# EAGLE library part AWHW14 (library J-IDC2.54mm)
14POS 2.52MM pitch Boxheader for IDC socktest http://assmann.us/
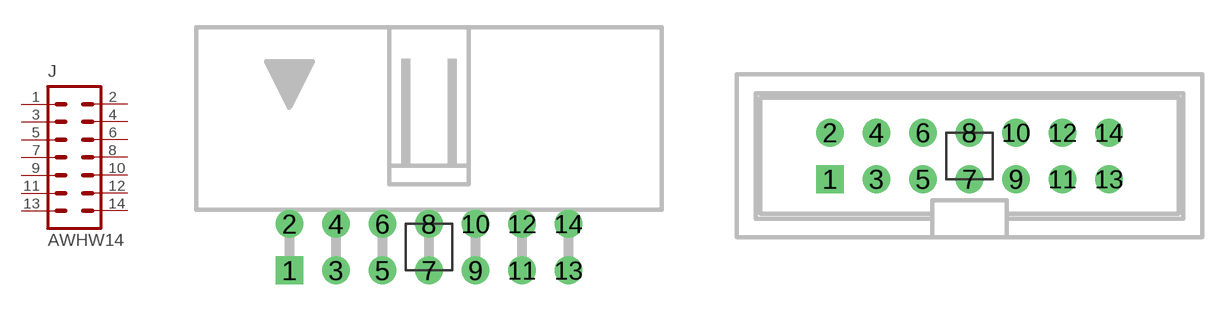
[diagram p2: symbol with the pads of 14A-0202-T-R; footprints 14A-0202-T-R, 14G-0202-T-R]

Designator prefix J

## AWHW14A-0202-T-R  [14A-0202-T-R]
1  1  pas
2  2  pas
3  3  pas
4  4  pas
5  5  pas
6  6  pas
7  7  pas
8  8  pas
9  9  pas
10  10  pas
11  11  pas
12  12  pas
13  13  pas
14  14  pas

## AWHW14G-0202-T-R  [14G-0202-T-R]
Pads as for 14A-0202-T-R

## AWHW14-G-SMD-R  [14-G-SMD-R]
Pads as for 14A-0202-T-R

## Footprint 14A-0202-T-R (pad centres in mm)
2.54MM Pitch, 1.016MM drill, diameter is auto (uses DRC restring) AWHW14A-0202-T-R
drill 1.016 square: 1 -7.62,-1.27
drill 1.016: 2 -7.62,1.27; 3 -5.08,-1.27; 4 -5.08,1.27; 5 -2.54,-1.27; 6 -2.54,1.27; 7 0,-1.27; 8 0,1.27; 9 2.54,-1.27; 10 2.54,1.27; 11 5.08,-1.27; 12 5.08,1.27; 13 7.62,-1.27; 14 7.62,1.27

## Footprint 14G-0202-T-R (pad centres in mm)
2.54MM Pitch, 1.016MM drill, diameter is auto (uses DRC restring) AWHW14G-0202-T-R
drill 1.016 square: 1 -7.62,-1.27
drill 1.016: 2 -7.62,1.27; 3 -5.08,-1.27; 4 -5.08,1.27; 5 -2.54,-1.27; 6 -2.54,1.27; 7 0,-1.27; 8 0,1.27; 9 2.54,-1.27; 10 2.54,1.27; 11 5.08,-1.27; 12 5.08,1.27; 13 7.62,-1.27; 14 7.62,1.27

## Footprint 14-G-SMD-R (pad centres in mm)
2.54MM Pitch, 3.9MM X1.02MM PAD 50% round, +/- 2.94MM offset AWHW14-G-SMD-R
smd 1.02 x 3.9: 1 -7.62,-2.94; 2 -7.62,2.94; 3 -5.08,-2.94; 4 -5.08,2.94; 5 -2.54,-2.94; 6 -2.54,2.94; 7 0,-2.94; 8 0,2.94; 9 2.54,-2.94; 10 2.54,2.94; 11 5.08,-2.94; 12 5.08,2.94; 13 7.62,-2.94; 14 7.62,2.94